# EAGLE library part U-BLOX_ZED_F9R (library ZED-F9T)
u-blox ZED-F9T GNSS receiver designed for high precision timing applications.
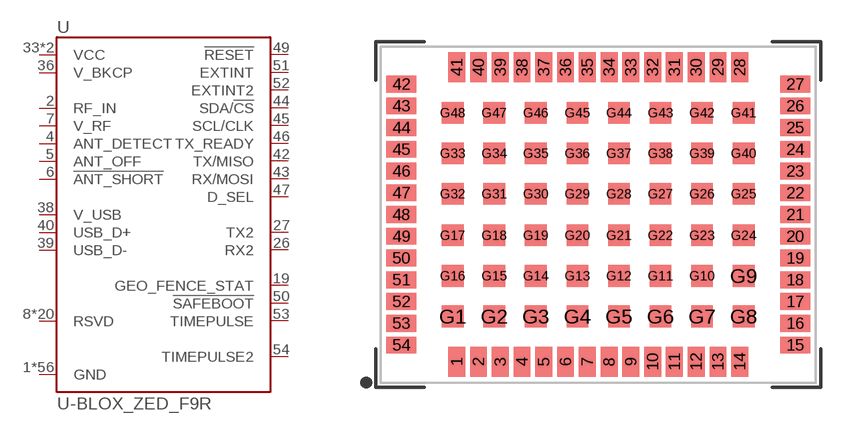
[diagram p0: symbol with the pads of ZED-F9X; footprint ZED-F9X]

Designator prefix U

## U-BLOX_ZED_F9RT (PROD_ID: IC-16292)  [ZED-F9X]
1  GND  pwr
2  RF_IN  in
3  GND  pwr
4  ANT_DETECT  in
5  ANT_OFF  out
6  !ANT_SHORT!  out
7  V_RF  out
8  RSVD  nc
9  RSVD  nc
10  RSVD  nc
11  RSVD  nc
12  GND  pwr
13  RSVD  nc
14  GND  pwr
15  RSVD  nc
16  RSVD  nc
17  RSVD  nc
18  RSVD  nc
19  GEO_FENCE_STAT  out
20  RSVD  nc
21  RSVD  nc
22  RSVD  nc
23  RSVD  nc
24  RSVD  nc
25  RSVD  nc
26  RX2  in
27  TX2  out
28  RSVD  nc
29  RSVD  nc
30  RSVD  nc
31  RSVD  nc
32  GND  pwr
33  VCC  pwr
34  VCC  pwr
35  RSVD  nc
36  V_BKCP  pwr
37  GND  pwr
38  V_USB  pwr
39  USB_D-
40  USB_D+
41  GND  pwr
42  TX/MISO
43  RX/MOSI
44  SDA/!CS!
45  SCL/CLK
46  TX_READY
47  D_SEL
48  GND  pwr
49  !RESET!
50  !SAFEBOOT!  in
51  EXTINT
52  EXTINT2
53  TIMEPULSE  out
54  TIMEPULSE2  out
G1  GND  pwr
G2  GND  pwr
G3  GND  pwr
G4  GND  pwr
G5  GND  pwr
G6  GND  pwr
G7  GND  pwr
G8  GND  pwr
G9  GND  pwr
G10  GND  pwr
G11  GND  pwr
G12  GND  pwr
G13  GND  pwr
G14  GND  pwr
G15  GND  pwr
G16  GND  pwr
G17  GND  pwr
G18  GND  pwr
G19  GND  pwr
G20  GND  pwr
G21  GND  pwr
G22  GND  pwr
G23  GND  pwr
G24  GND  pwr
G25  GND  pwr
G26  GND  pwr
G27  GND  pwr
G28  GND  pwr
G29  GND  pwr
G30  GND  pwr
G31  GND  pwr
G32  GND  pwr
G33  GND  pwr
G34  GND  pwr
G35  GND  pwr
G36  GND  pwr
G37  GND  pwr
G38  GND  pwr
G39  GND  pwr
G40  GND  pwr
G41  GND  pwr
G42  GND  pwr
G43  GND  pwr
G44  GND  pwr
G45  GND  pwr
G46  GND  pwr
G47  GND  pwr
G48  GND  pwr

## Footprint ZED-F9X (pad centres in mm)
smd 0.85 x 1.52: 1 -7.15,-7.45; 2 -6.05,-7.45; 3 -4.95,-7.45; 4 -3.85,-7.45; 5 -2.75,-7.45; 6 -1.65,-7.45; 7 -0.55,-7.45; 8 0.55,-7.45; 9 1.65,-7.45; 10 2.75,-7.45; 11 3.85,-7.45; 12 4.95,-7.45; 13 6.05,-7.45; 14 7.15,-7.45; 28 7.15,7.45; 29 6.05,7.45; 30 4.95,7.45; 31 3.85,7.45; 32 2.75,7.45; 33 1.65,7.45; 34 0.55,7.45; 35 -0.55,7.45; 36 -1.65,7.45; 37 -2.75,7.45; 38 -3.85,7.45; 39 -4.95,7.45; 40 -6.05,7.45; 41 -7.15,7.45
smd 1.52 x 0.85: 15 9.95,-6.6; 16 9.95,-5.5; 17 9.95,-4.4; 18 9.95,-3.3; 19 9.95,-2.2; 20 9.95,-1.1; 21 9.95,0; 22 9.95,1.1; 23 9.95,2.2; 24 9.95,3.3; 25 9.95,4.4; 26 9.95,5.5; 27 9.95,6.6; 42 -9.95,6.6; 43 -9.95,5.5; 44 -9.95,4.4; 45 -9.95,3.3; 46 -9.95,2.2; 47 -9.95,1.1; 48 -9.95,0; 49 -9.95,-1.1; 50 -9.95,-2.2; 51 -9.95,-3.3; 52 -9.95,-4.4; 53 -9.95,-5.5; 54 -9.95,-6.6
smd 1.1 x 1.1: G1 -7.35,-5.15; G2 -5.25,-5.15; G3 -3.15,-5.15; G4 -1.05,-5.15; G5 1.05,-5.15; G6 3.15,-5.15; G7 5.25,-5.15; G8 7.35,-5.15; G9 7.35,-3.1; G10 5.25,-3.1; G11 3.15,-3.1; G12 1.05,-3.1; G13 -1.05,-3.1; G14 -3.15,-3.1; G15 -5.25,-3.1; G16 -7.35,-3.1; G17 -7.35,-1.05; G18 -5.25,-1.05; G19 -3.15,-1.05; G20 -1.05,-1.05; G21 1.05,-1.05; G22 3.15,-1.05; G23 5.25,-1.05; G24 7.35,-1.05; G25 7.35,1.05; G26 5.25,1.05; G27 3.15,1.05; G28 1.05,1.05; G29 -1.05,1.05; G30 -3.15,1.05; G31 -5.25,1.05; G32 -7.35,1.05; G33 -7.35,3.1; G34 -5.25,3.1; G35 -3.15,3.1; G36 -1.05,3.1; G37 1.05,3.1; G38 3.15,3.1; G39 5.25,3.1; G40 7.35,3.1; G41 7.35,5.15; G42 5.25,5.15; G43 3.15,5.15; G44 1.05,5.15; G45 -1.05,5.15; G46 -3.15,5.15; G47 -5.25,5.15; G48 -7.35,5.15